# Altium schematic symbol library SG_SCH_Interfaces.SchLib: 16 symbols
Pins are listed as number, name and electrical type; pins without a type are passive.

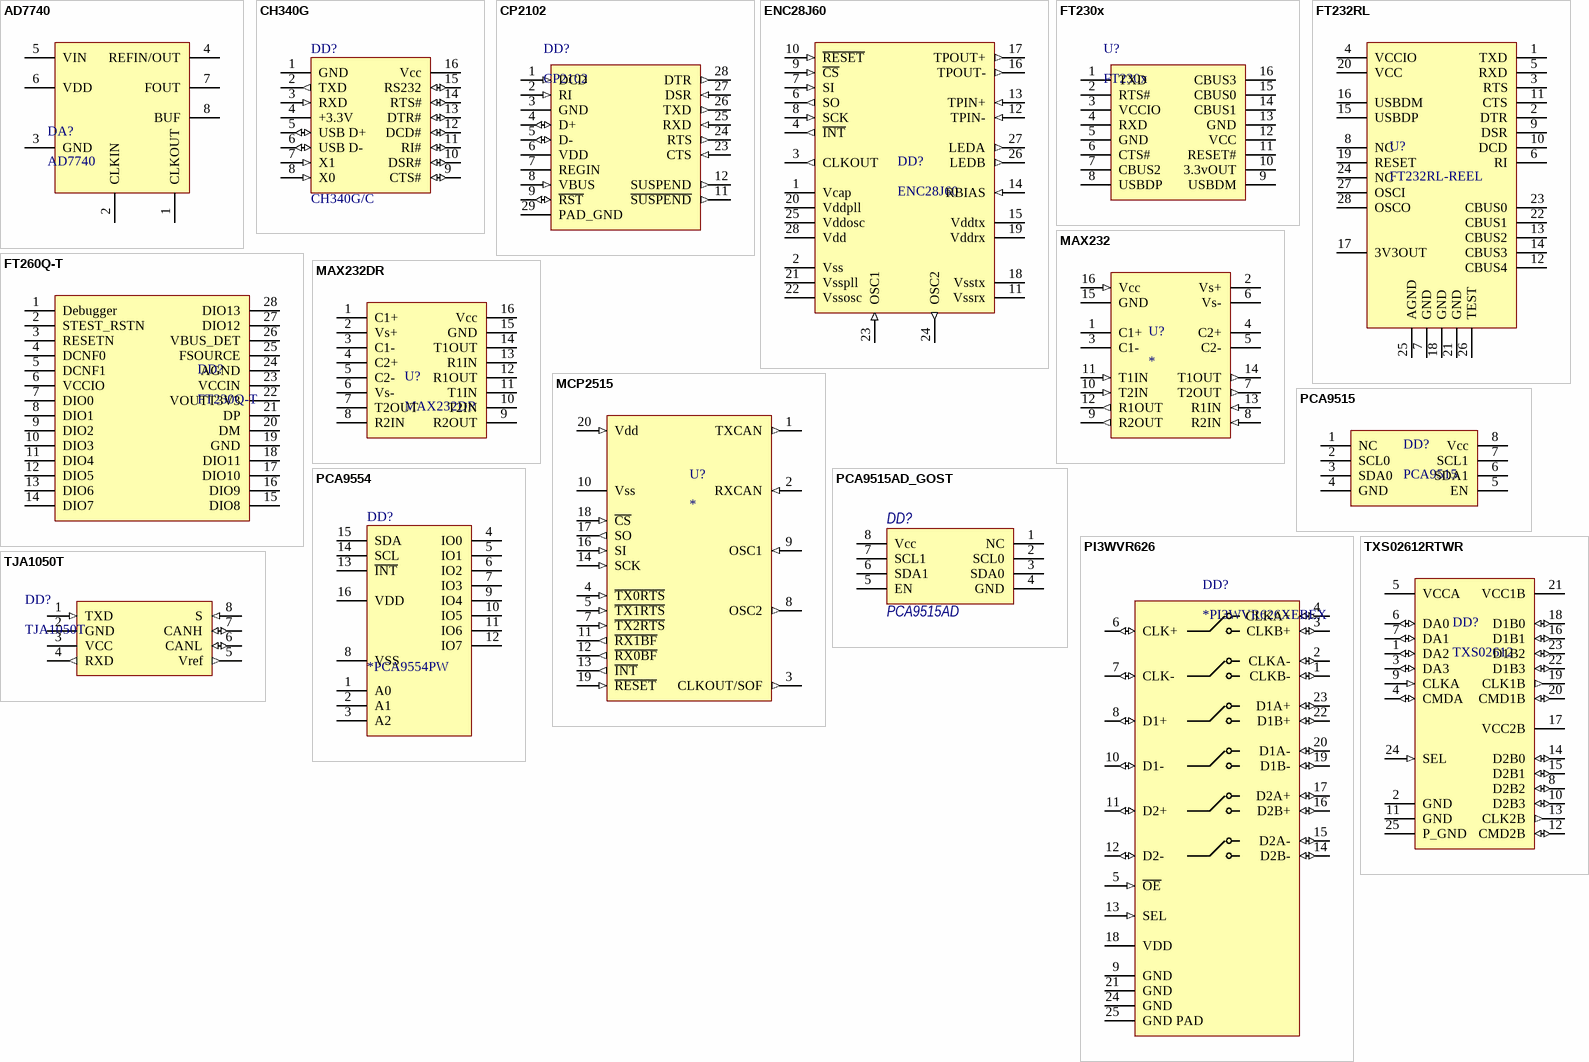
[diagram p0: symbols AD7740 to TXS02612RTWR]

## AD7740
designator DA?
3 V/5 V Low Power, Synchronous Voltage-to-Frequency Converter; Order: *AD7740KRMZ-REEL7
footprint MSOP-8 (TSOP, 8-Leads, Body 3,00x3,00mm, Pitch 0,65mm, IPC Medium Density)
pins: 1 CLKOUT, 2 CLKIN, 3 GND, 4 REFIN/OUT, 5 VIN, 6 VDD, 7 FOUT, 8 BUF

## CH340G
designator DD?, comment CH340G/C
low cost uart-sb; DefaultOrder: CH340C; Order: *; LCSC Part #: C84681; BuyLink1: https://lcsc.com/product-detail/USB-ICs_WCH-Jiangsu-Qin-Heng-CH340C_C84681.html
footprint SOP-16
pins: 1 GND (power), 2 TXD (out), 3 RXD (in), 4 +3.3V (power), 5 USB D+ (io), 6 USB D- (io), 7 X1 (in), 8 X0 (in), 9 CTS# (io), 10 DSR# (io), 11 RI# (io), 12 DCD# (io), 13 DTR# (io), 14 RTS# (io), 15 RS232 (io), 16 Vcc (power)

## CP2102
designator DD?
UART-USB; OriginalSource: AltTab; Order: *; DefaultOrder: *
footprint QFN-28_CP2102 (Body 5,00x5,00mm, Pitch 0,50mm)
pins: 1 DCD (in), 2 RI (in), 3 GND (power), 4 D+ (io), 5 D- (io), 6 VDD (power), 7 REGIN (power), 8 VBUS (in), 9 ~{RST} (io), 11 ~{SUSPEND} (out), 12 SUSPEND (out), 23 CTS (in), 24 RTS (out), 25 RXD (in), 26 TXD (out), 27 DSR (in), 28 DTR (out), 29 PAD_GND (power)

## ENC28J60
designator DD?
Stand-Alone Ethernet Controller with SPI Interface; Order: *ENC28J60T-I/SS
footprint DIP-28
footprint SSOP-28
footprint SO-28
pins: 1 Vcap (power) "2.5V output from internal regulator. A low Equivalent Series Resistance (ESR) capacitor, with a typical value of 10 mF and a minimum value of 1 mF to ground, must be placed on this pin.", 2 Vss (power) "Ground reference.", 3 CLKOUT (out) "Programmable clock output pin", 4 ~{INT} (out) "INT interrupt output pin", 6 SO (out) "Data out pin for SPI interface", 7 SI (in) "Data in pin for SPI interface", 8 SCK (in) "Clock in pin for SPI interface", 9 ~{CS} (in) "Chip select input pin for SPI interface", 10 ~{RESET} (in) "Active-low device Reset input", 11 Vssrx (power) "Ground reference for PHY RX.", 12 TPIN- (in) "Differential signal input.", 13 TPIN+ (in) "Differential signal input.", 14 RBIAS (in) "Bias current pin for PHY. Must be tied to ground via a resistor", 15 Vddtx (power) "Positive supply for PHY TX.", 16 TPOUT- (out) "Differential signal output.", 17 TPOUT+ (out) "Differential signal output.", 18 Vsstx (power) "Ground reference for PHY TX.", 19 Vddrx (power) "Positive 3.3V supply for PHY RX.", 20 Vddpll (power) "Positive 3.3V supply for PHY PLL.", 21 Vsspll (power) "Ground reference for PHY PLL.", 22 Vssosc (power) "Ground reference for oscillator.", 23 OSC1 (in) "Oscillator input.", 24 OSC2 (out) "Oscillator output.", 25 Vddosc (power) "Positive 3.3V supply for oscillator.", 26 LEDB (out) "LEDB driver pin", 27 LEDA (out) "LEDA driver pin", 28 Vdd (power) "Positive 3.3V supply"

## FT230x
designator U?
UART-USB; OriginalSource: AltTab; Order: *
pins: 1 TXD, 2 RTS#, 3 VCCIO, 4 RXD, 5 GND, 6 CTS#, 7 CBUS2, 8 USBDP, 9 USBDM, 10 3.3vOUT, 11 RESET#, 12 VCC, 13 GND, 14 CBUS1, 15 CBUS0, 16 CBUS3

## FT232RL
designator U?, comment FT232RL-REEL
USB-UART; OriginalSource: AltTab; DefaultOrder: FT232RL-REEL; Order: *
pins: 1 TXD, 2 DTR, 3 RTS, 4 VCCIO, 5 RXD, 6 RI, 7 GND, 8 NC, 9 DSR, 10 DCD, 11 CTS, 12 CBUS4, 13 CBUS2, 14 CBUS3, 15 USBDP, 16 USBDM, 17 3V3OUT, 18 GND, 19 RESET, 20 VCC, 21 GND, 22 CBUS1, 23 CBUS0, 24 NC, 25 AGND, 26 TEST, 27 OSCI, 28 OSCO

## FT260Q-T
designator DD?, comment FT230Q-T
UART-USB; OriginalSource: AltTab; Order: *
footprint WQFN-28 (PQFN, 28-Leads, Body 5,00x5,00mm, Pitch 0,50mm, Thermal Pad 3,25x3,25mm, IPC Medium Density)
pins: 1 Debugger, 2 STEST_RSTN, 3 RESETN, 4 DCNF0, 5 DCNF1, 6 VCCIO, 7 DIO0, 8 DIO1, 9 DIO2, 10 DIO3, 11 DIO4, 12 DIO5, 13 DIO6, 14 DIO7, 15 DIO8, 16 DIO9, 17 DIO10, 18 DIO11, 19 GND, 20 DM, 21 DP, 22 VOUTT3V3, 23 VCCIN, 24 AGND, 25 FSOURCE, 26 VBUS_DET, 27 DIO12, 28 DIO13, 29

## MAX232
designator U?
UART-RS232 converter; DefaultOrder: MAX232DR; OriginalSource: AltTab; Order: *
footprint SO-16
footprint DIP-16
pins: 1 C1+, 2 Vs+ (power), 3 C1-, 4 C2+, 5 C2-, 6 Vs- (power), 7 T2OUT (out), 8 R2IN (in), 9 R2OUT (out), 10 T2IN (in), 11 T1IN (in), 12 R1OUT (out), 13 R1IN (in), 14 T1OUT (out), 15 GND (power), 16 Vcc (in)

## MAX232DR
designator U?
UART-RS232 converter; OriginalSource: AltTab; DefaultOrder: MAX232DR; Order: *
footprint SO-16
pins: 1 C1+, 2 Vs+, 3 C1-, 4 C2+, 5 C2-, 6 Vs-, 7 T2OUT, 8 R2IN, 9 R2OUT, 10 T2IN, 11 T1IN, 12 R1OUT, 13 R1IN, 14 T1OUT, 15 GND, 16 Vcc

## MCP2515
designator U?
Stand-Alone CAN Controller with SPI Interface; DefaultOrder: MCP2515T-I/ST; Order: *; ComponentLink1Description: Datasheet; ComponentLink1URL: https://ww1.microchip.com/downloads/en/DeviceDoc/MCP2515-Stand-Alone-CAN-Controller-with-SPI-20001801J.pdf
footprint TSSOP-20
pins: 1 TXCAN (out), 2 RXCAN (in), 3 CLKOUT/SOF (out), 4 ~{TX0RTS} (in), 5 ~{TX1RTS} (in), 7 ~{TX2RTS} (in), 8 OSC2 (out), 9 OSC1 (in), 10 Vss (power), 11 ~{RX1BF} (out), 12 ~{RX0BF} (out), 13 ~{INT} (out), 14 SCK (in), 16 SI (in), 17 SO (out), 18 ~{CS} (in), 19 ~{RESET} (in), 20 Vdd (in)

## PCA9515
designator DD?
I2C buffer; DefaultOrder: PCA9515AD; OriginalSource: AltTab; Order: *
footprint SO-8 (Small Outline; 8 Leads; Body Width 3.9 mm; Pitch 1.27 mm)
pins: 1 NC (oc), 2 SCL0 (oc), 3 SDA0 (oc), 4 GND (power), 5 EN (oc), 6 SDA1 (oc), 7 SCL1 (oc), 8 Vcc (power)

## PCA9515AD_GOST
designator DD?, comment PCA9515AD
OriginalSource: AltTab; DefaultOrder: PCA9515AD
footprint SO-8 (Small Outline; 8 Leads; Body Width 3.9 mm; Pitch 1.27 mm)
pins: 1 NC (oc), 2 SCL0 (oc), 3 SDA0 (oc), 4 GND (power), 5 EN (oc), 6 SDA1 (oc), 7 SCL1 (oc), 8 Vcc (power)

## PCA9554
designator DD?, comment *PCA9554PW
8-bit I2C-bus and SMBus I/O port with interrupt; Order: *PCA9554PW
footprint TSSOP-16
footprint SO-16
pins: 1 A0, 2 A1, 3 A2, 4 IO0, 5 IO1, 6 IO2, 7 IO3, 8 VSS, 9 IO4, 10 IO5, 11 IO6, 12 IO7, 13 ~{INT}, 14 SCL, 15 SDA, 16 VDD

## PI3WVR626
designator DD?, comment *PI3WVR626XEBEX
2:1 MIPI 2-Data Lane Switch; Order: *PI3WVR626XEBEX; ComponentLink1Description: HelpURL; ComponentLink1URL: https://www.diodes.com/datasheet/download/PI3WVR626.pdf
footprint QFN-24(PI3WVR626) (Footprint not found)
pins: 1 CLKB- (io), 2 CLKA- (io), 3 CLKB+ (io), 4 CLKA+ (io), 5 ~{OE} (in), 6 CLK+ (io), 7 CLK- (io), 8 D1+ (io), 9 GND (power), 10 D1- (io), 11 D2+ (io), 12 D2- (io), 13 SEL (in), 14 D2B- (io), 15 D2A- (io), 16 D2B+ (io), 17 D2A+ (io), 18 VDD (power), 19 D1B- (io), 20 D1A- (io), 21 GND (power), 22 D1B+ (io), 23 D1A+ (io), 24 GND (power), 25 GND PAD (power)

## TJA1050T
designator DD?
High speed CAN transceiver; OriginalSource: AltTab; DefaultOrder: TJA1050T
pins: 1 TXD (in), 2 GND (power), 3 VCC (power), 4 RXD (out), 5 Vref (out), 6 CANL (io), 7 CANH (io), 8 S (in)

## TXS02612RTWR
designator DD?, comment TXS02612
SDIO PORT EXPANDER WITH VOLTAGE-LEVEL TRANSLATION; DefaultOrder: TXS02612RTWR; OriginalSource: AltTab; Order: *
pins: 1 DA2 (io), 2 GND (power), 3 DA3 (io), 4 CMDA (io), 5 VCCA (power), 6 DA0 (io), 7 DA1 (io), 8 D2B2 (io), 9 CLKA (in), 10 D2B3 (io), 11 GND (power), 12 CMD2B (io), 13 CLK2B (out), 14 D2B0 (io), 15 D2B1 (io), 16 D1B1 (io), 17 VCC2B (power), 18 D1B0 (io), 19 CLK1B (out), 20 CMD1B (io), 21 VCC1B (power), 22 D1B3 (io), 23 D1B2 (io), 24 SEL (in), 25 P_GND (power)